# Altium footprint library SOT.PcbLib: 163 footprints (part 3 of 11)
Each footprint in its own frame and in the unit in brackets; x right, y up, seen from the top. Pads: shape width x height; smd on the part's side, far side on the other; paste and mask are expansions set on the pad; w line width, h text height; cw(c..) or ccw(c..) is an arc to the next point about the centre after c.
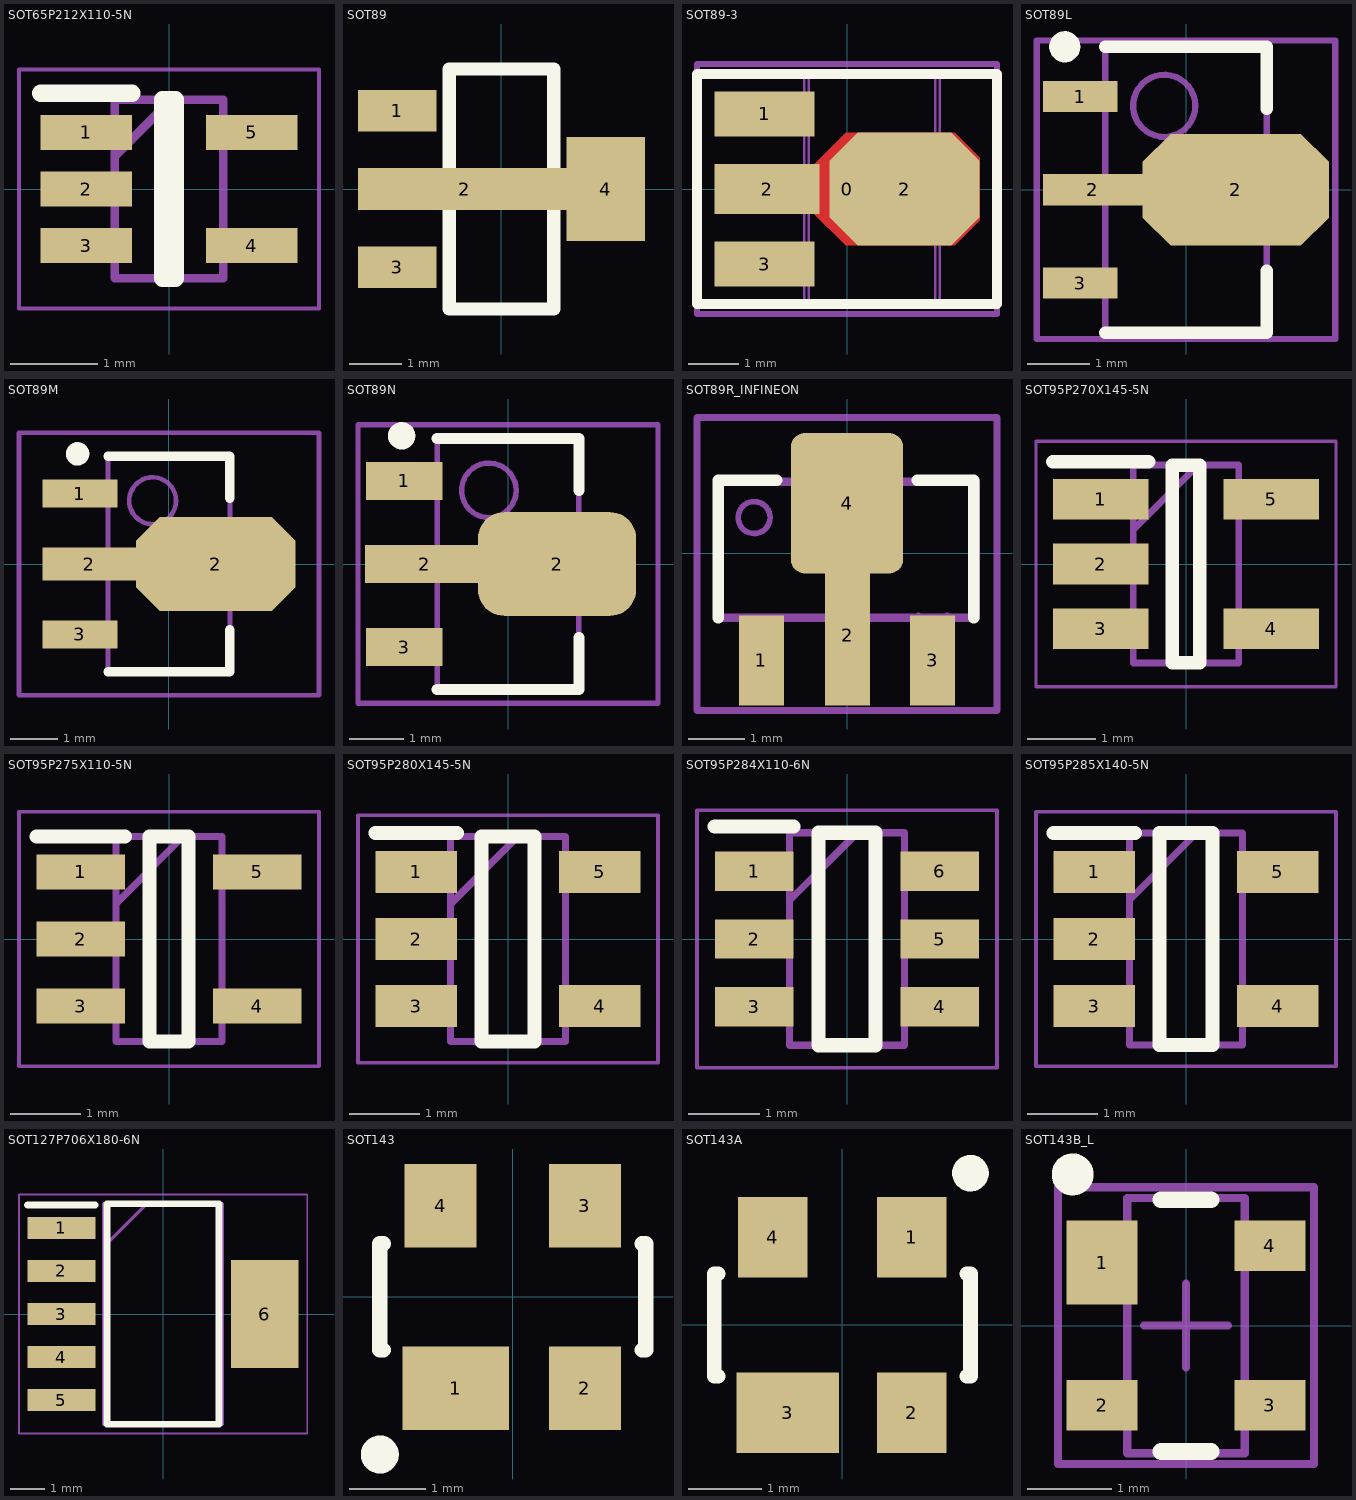
[diagram p2: the footprints below, top view; thin cyan lines are the x and y axes]

## SOT65P212X110-5N [mm]
pads (5):
  rect 1.05x0.4 smd: 1(-0.95,0.65) 2(-0.95,0) 3(-0.95,-0.65) 4(0.95,-0.65) 5(0.95,0.65)
Top Overlay:
  lines w0.2: -1.475,1.1 -0.425,1.1 ; -0.075,-1.025 0.075,-1.025 0.075,1.025 -0.075,1.025 -0.075,-1.025
Mechanical 13:
  lines w0.1: -0.625,0.375 0.025,1.025 ; -0.625,-1.025 0.625,-1.025 0.625,1.025 -0.625,1.025 -0.625,-1.025
Mechanical 15:
  lines w0.05: -1.725,-1.375 1.725,-1.375 1.725,1.375 -1.725,1.375 -1.725,-1.375
3D body "74LVC1G07GW-Q100H.stp": height 0.95, standoff 0, extent -1.048,-1.049 1.052,1.101

## SOT89 [mm]
pads (4):
  rect 1.5x0.8 smd: 1(-2,1.5) 3(-2,-1.5)
  rect 4.1x0.8 smd: 2(-0.7,0)
  rect 1.5x2 smd: 4(2,0)
Top Overlay:
  lines w0.254: -1,-2.3 -1,2.3 1,2.3 1,-2.3 -1,-2.3
3D body "SOT89.STEP": height 1.59, standoff -0.02, extent -2.208,-2.285 2.042,2.315

## SOT89-3 [mm] "JEDEC TO-243 option AA / SOT89"
height 1.7
pads (5):
  round 1 on Mech15: 0(0,0)
  rrect1% 2x0.9 smd: 1(-1.65,1.5) 3(-1.65,-1.5)
  rrect1% 2.1x1 smd: 2(-1.6,0)
  oct 3x2.25 smd: 2(1.15,0)
Top Layer:
  region: -0.7,-0.45 -0.025,-1.125 2.15,-1.125 2.65,-0.625 2.65,0.625 2.15,1.125 -0.025,1.125 -0.7,0.45
Top Overlay:
  lines w0.2: -3,-2.3 3,-2.3 3,2.3 -3,2.3 -3,-2.3
Mechanical 13:
  lines w0.05: -0.85,-1.76 -0.85,-2.35 ; -0.85,-1.24 -0.85,-0.3 ; -0.85,0.3 -0.85,1.24 ; -0.85,1.76 -0.85,2.35 ; 1.85,-0.925 1.85,-2.35 ; 1.85,0.925 1.85,2.35 ; -0.85,-2.35 -0.761,-2.261 ; -0.85,-2.35 1.85,-2.35 ; -0.85,2.35 -0.761,2.261 ; -0.85,2.35 1.85,2.35 ; -0.761,-2.261 -0.761,2.261 ; -0.761,-2.261 1.761,-2.261 ; -0.761,2.261 1.761,2.261 ; 1.761,-2.261 1.85,-2.35 ; 1.761,-2.261 1.761,2.261 ; 1.761,2.261 1.85,2.35 ; -2.25,-1.76 -0.824,-1.76 -0.824,-1.24 -2.25,-1.24 -2.25,-1.76 ; -2.25,-0.3 -2.25,0.3 -0.824,0.3 -0.824,-0.3 -2.25,-0.3 ; -2.25,1.24 -0.824,1.24 -0.824,1.76 -2.25,1.76 -2.25,1.24 ; 1.824,-0.925 1.824,0.925 1.9,0.925 2.2,0.625 2.2,-0.625 1.9,-0.925 1.824,-0.925
Mechanical 15:
  lines w0.127: -3,-2.5 3,-2.5 3,2.5 -3,2.5 -3,-2.5
3D body "SOT89-3.STEP": height 1.69, standoff 0, extent -2.25,-2.35 2.2,2.35

## SOT89L [mm] "SOT89, 3-Leads, Body 4.5x2.4 mm, Pitch 1.5mm, Lead Span 4.1mm, IPC High Density"
height 1.6
pads (4):
  rect 1.2x0.5 smd: 1(-1.7,1.5) 3(-1.7,-1.5)
  rect 1.6x0.5 smd: 2(-1.5,0)
  oct 3x1.8 smd: 2(0.8,0)
Top Overlay:
  circle w0.25: c-1.95,2.3 r0.125
  lines w0.2: -1.3,-2.3 1.3,-2.3 1.3,-1.3 ; -1.3,2.3 1.3,2.3 1.3,1.3
Mechanical 13:
  circle w0.1: c-0.35,1.35 r0.5
  lines w0.1: -1.3,-2.3 1.3,-2.3 1.3,2.3 -1.3,2.3 -1.3,-2.3
Mechanical 15:
  lines w0.1: -0.5,0 0.5,0 ; 0,-0.5 0,0.5 ; -2.4,-2.4 2.4,-2.4 2.4,2.4 -2.4,2.4 -2.4,-2.4
3D body: height 1.6, standoff 0, extent -1.3,-2.3 1.3,2.3

## SOT89M [mm] "SOT89, 3-Leads, Body 4.5x2.4 mm, Pitch 1.5mm, Lead Span 4.1mm, IPC Low Density"
height 1.6
pads (4):
  rect 1.6x0.6 smd: 1(-1.9,1.5) 3(-1.9,-1.5)
  rect 2x0.7 smd: 2(-1.7,0)
  oct 3.4x2 smd: 2(1,0)
Top Overlay:
  circle w0.25: c-1.95,2.35 r0.125
  lines w0.2: -1.3,-2.3 1.3,-2.3 1.3,-1.4 ; -1.3,2.3 1.3,2.3 1.3,1.4
Mechanical 13:
  circle w0.1: c-0.35,1.35 r0.5
  lines w0.1: -1.3,-2.3 -1.3,2.3 1.3,2.3 1.3,-2.3 -1.3,-2.3
Mechanical 15:
  lines w0.1: -0.5,0 0.5,0 ; 0,-0.5 0,0.5 ; -3.2,-2.8 -3.2,2.8 3.2,2.8 3.2,-2.8 -3.2,-2.8
3D body: height 1.6, standoff 0, extent -1.3,-2.3 1.3,2.3

## SOT89N [mm] "SOT89, 3-Leads, Body 4.5x2.4 mm, Pitch 1.5mm, Lead Span 4.1mm, IPC Medium Density"
height 1.6
pads (4):
  rect 1.4x0.7 smd: 1(-1.905,1.524) 3(-1.905,-1.524)
  rect 2.2x0.7 smd: 2(-1.524,0)
  rrect50% 2.9x1.9 smd: 2(0.9,0)
Top Overlay:
  circle w0.25: c-1.95,2.35 r0.125
  lines w0.2: -1.3,-2.3 1.3,-2.3 1.3,-1.35 ; -1.3,2.3 1.3,2.3 1.3,1.35
Mechanical 13:
  circle w0.1: c-0.35,1.35 r0.5
  lines w0.1: -1.3,-2.3 1.3,-2.3 1.3,2.3 -1.3,2.3 -1.3,-2.3
Mechanical 15:
  lines w0.1: -0.5,0 0.5,0 ; 0,-0.5 0,0.5 ; -2.75,-2.55 2.75,-2.55 2.75,2.55 -2.75,2.55 -2.75,-2.55
3D body "User Library-SOT89-3-2.STEP": height 1.61, standoff 0, extent -2.345,-2.31 1.905,2.286

## SOT89R_INFINEON [mm]
pads (4):
  rect 0.8x1.6 smd: 1(-1.524,-1.905) 3(1.524,-1.905)
  rect 0.8x2.5 smd: 2(0.012,-1.459)
  rrect25% 2x2.5 smd: 4(0,0.889)
Top Overlay:
  lines w0.203: -2.286,-1.15 -2.286,1.3 -1.25,1.3 ; 1.25,1.3 2.25,1.3 2.25,-1.15
Mechanical 13:
  circle w0.1: c-1.651,0.635 r0.284
  lines w0.15: -1.778,-1.143 -1.778,-2.159 -1.27,-2.159 -1.27,-1.143 ; -0.889,1.27 -0.889,1.651 -0.635,1.905 0.508,1.905 0.762,1.651 0.762,1.27 ; -0.255,-1.155 -0.255,-2.171 0.253,-2.171 0.253,-1.155 ; 1.271,-1.131 1.271,-2.147 1.779,-2.147 1.779,-1.131 ; -2.286,-1.143 2.286,-1.143 2.286,1.27 -2.286,1.27 -2.286,-1.143
Mechanical 15:
  lines w0.127: -2.667,-2.794 2.667,-2.794 2.667,2.413 -2.667,2.413 -2.667,-2.794
3D body "User Library-SOT89-3-2.STEP": height 1.61, standoff 0, extent -2.31,-2.379 2.286,1.871

## SOT95P270X145-5N [mm]
pads (5):
  rect 1.4x0.6 smd: 1(-1.25,0.95) 2(-1.25,0) 3(-1.25,-0.95) 4(1.25,-0.95) 5(1.25,0.95)
Top Overlay:
  lines w0.2: -1.95,1.5 -0.55,1.5 ; -0.2,-1.45 -0.2,1.45 0.2,1.45 0.2,-1.45 -0.2,-1.45
Mechanical 13:
  lines w0.1: -0.775,0.5 0.175,1.45 ; -0.775,-1.45 -0.775,1.45 0.775,1.45 0.775,-1.45 -0.775,-1.45
Mechanical 15:
  lines w0.05: -2.2,-1.8 -2.2,1.8 2.2,1.8 2.2,-1.8 -2.2,-1.8
3D body "MCP1824T-3302E_OT.stp": height 1.45, standoff 0, extent -1.35,-1.45 1.35,1.45

## SOT95P275X110-5N [mm]
pads (5):
  rect 1.25x0.5 smd: 1(-1.25,0.95) 2(-1.25,0) 3(-1.25,-0.95) 4(1.25,-0.95) 5(1.25,0.95)
Top Overlay:
  lines w0.2: -1.875,1.45 -0.625,1.45 ; -0.275,-1.45 -0.275,1.45 0.275,1.45 0.275,-1.45 -0.275,-1.45
Mechanical 13:
  lines w0.1: -0.75,0.5 0.2,1.45 ; -0.75,-1.45 -0.75,1.45 0.75,1.45 0.75,-1.45 -0.75,-1.45
Mechanical 15:
  lines w0.05: -2.125,-1.8 -2.125,1.8 2.125,1.8 2.125,-1.8 -2.125,-1.8
3D body "74LVC1G07GV,125.stp": height 1, standoff 0, extent -1.394,-1.477 1.394,1.473

## SOT95P280X145-5N [mm]
pads (5):
  rect 1.15x0.6 smd: 1(-1.3,0.95) 2(-1.3,0) 3(-1.3,-0.95) 4(1.3,-0.95) 5(1.3,0.95)
Top Overlay:
  lines w0.2: -1.875,1.5 -0.725,1.5 ; -0.375,-1.45 -0.375,1.45 0.375,1.45 0.375,-1.45 -0.375,-1.45
Mechanical 13:
  lines w0.1: -0.812,0.5 0.138,1.45 ; -0.812,-1.45 -0.812,1.45 0.812,1.45 0.812,-1.45 -0.812,-1.45
Mechanical 15:
  lines w0.05: -2.125,-1.75 -2.125,1.75 2.125,1.75 2.125,-1.75 -2.125,-1.75
3D body "TS3021ILT.stp": height 1.45, standoff 0, extent -1.4,-1.45 1.4,1.45

## SOT95P284X110-6N [mm]
pads (6):
  rect 1.1x0.55 smd: 1(-1.3,0.95) 2(-1.3,0) 3(-1.3,-0.95) 4(1.3,-0.95) 5(1.3,0) 6(1.3,0.95)
Top Overlay:
  lines w0.2: -1.85,1.575 -0.75,1.575 ; -0.4,-1.488 0.4,-1.488 0.4,1.488 -0.4,1.488 -0.4,-1.488
Mechanical 13:
  lines w0.1: -0.806,0.538 0.144,1.488 ; -0.806,-1.488 0.806,-1.488 0.806,1.488 -0.806,1.488 -0.806,-1.488
Mechanical 15:
  lines w0.05: -2.1,-1.8 2.1,-1.8 2.1,1.8 -2.1,1.8 -2.1,-1.8
3D body "SIP32510DT-T1-GE3.stp": height 1.1, standoff 0, extent -1.42,-1.488 1.42,1.488

## SOT95P285X140-5N [mm]
pads (5):
  rect 1.15x0.6 smd: 1(-1.3,0.95) 2(-1.3,0) 3(-1.3,-0.95) 4(1.3,-0.95) 5(1.3,0.95)
Top Overlay:
  lines w0.2: -1.875,1.5 -0.725,1.5 ; -0.375,-1.5 0.375,-1.5 0.375,1.5 -0.375,1.5 -0.375,-1.5
Mechanical 13:
  lines w0.1: -0.8,0.55 0.15,1.5 ; -0.8,-1.5 0.8,-1.5 0.8,1.5 -0.8,1.5 -0.8,-1.5
Mechanical 15:
  lines w0.05: -2.125,-1.8 2.125,-1.8 2.125,1.8 -2.125,1.8 -2.125,-1.8
3D body "AP7330-W5-7.stp": height 1.4, standoff 0, extent -1.425,-1.5 1.425,1.5

## SOT127P706X180-6N [mm]
pads (6):
  rect 2x0.65 smd: 1(-3,2.54) 2(-3,1.27) 3(-3,0) 4(-3,-1.27) 5(-3,-2.54)
  rect 2x3.2 smd: 6(3,0)
Top Overlay:
  lines w0.2: -4,3.215 -2,3.215 ; -1.65,-3.25 1.65,-3.25 1.65,3.25 -1.65,3.25 -1.65,-3.25
Mechanical 13:
  lines w0.1: -1.75,1.98 -0.48,3.25 ; -1.75,-3.25 1.75,-3.25 1.75,3.25 -1.75,3.25 -1.75,-3.25
Mechanical 15:
  lines w0.05: -4.25,-3.525 4.25,-3.525 4.25,3.525 -4.25,3.525 -4.25,-3.525
3D body "MCP1825T-ADJE_DC.stp": height 1.8, standoff 0, extent -3.53,-3.25 3.53,3.25

## SOT143 [mm] "SOT-143; 4 Leads; Body 3 x 2.5 mm, inc. leads (LxW max)"
height 1.2
pads (4):
  rect 1.4x1.1 smd: 1(-0.75,-1.2)
  rect 0.95x1.1 smd: 2(0.95,-1.2) 3(0.95,1.2) 4(-0.95,1.2)
Top Overlay:
  circle w0.25: c-1.75,-2.075 r0.125
  lines w0.2: -1.7,-0.7 -1.75,-0.7 -1.75,0.7 -1.7,0.7 ; 1.7,-0.7 1.75,-0.7 1.75,0.7 1.7,0.7

## SOT143A [mm] "SOT-143; 4 Leads; Body 3 x 2.5 mm, inc. leads (LxW max)"
height 1.2
pads (4):
  rect 0.95x1.1 smd: 1(0.95,1.2) 2(0.95,-1.2) 4(-0.95,1.2)
  rect 1.4x1.1 smd: 3(-0.75,-1.2)
Top Overlay:
  circle w0.25: c1.75,2.075 r0.125
  lines w0.2: -1.7,-0.7 -1.75,-0.7 -1.75,0.7 -1.7,0.7 ; 1.7,-0.7 1.75,-0.7 1.75,0.7 1.7,0.7

## SOT143B_L [mm] "SOT143, 4-Leads, Body 2.9x1.3mm, Pitch 1.9mm, Lead Span 2.3mm, IPC High Density"
height 1.1
pads (4):
  rect 0.85x1 smd: 1(-1,0.75)
  rect 0.85x0.6 smd: 2(-1,-0.95) 3(1,-0.95) 4(1,0.95)
Top Overlay:
  circle w0.25: c-1.35,1.8 r0.125
  lines w0.2: -0.3,-1.5 0.3,-1.5 ; -0.3,1.5 0.3,1.5
Mechanical 13:
  lines w0.1: -0.7,-1.52 -0.7,1.52 0.7,1.52 0.7,-1.52 -0.7,-1.52
Mechanical 15:
  lines w0.1: -0.5,0 0.5,0 ; 0,-0.5 0,0.5 ; -1.525,-1.65 -1.525,1.65 1.525,1.65 1.525,-1.65 -1.525,-1.65
3D body: height 1.1, standoff 0, extent -0.7,-1.52 0.7,1.52